# Altium schematic symbol library SM10B-NSHSS-TB.SchLib: 1 symbol
Pins are listed as number, name and electrical type; pins without a type are passive.

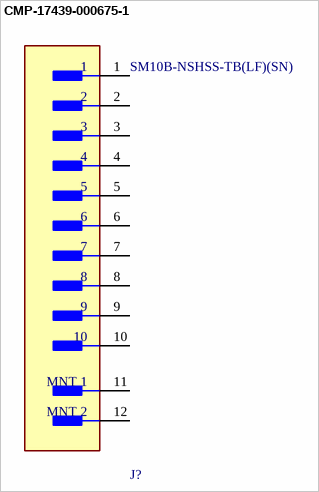
[diagram p0: symbol CMP-17439-000675-1]

## CMP-17439-000675-1
designator J?, comment SM10B-NSHSS-TB(LF)(SN)
CONN HEADER SMD R/A 10POS 1MM; Number of Positions: 10; Connector Type: Outer Shroud Contact; Pitch: 0.039inch; Packaging: Cut Tape; Fastening Type: Latch; Series: NSH; Termination: Solder; Contact Plating: Tin; Color: Natural; Mount: Surface Mount; Number of Rows: 1; Contact Type: Outer Shroud Contact; Lead Free: Lead Free
footprint FP-SM10B-NSHSS-TB_LF_SN-MFG
pins: 1, 2, 3, 4, 5, 6, 7, 8, 9, 10, 11 MNT 1, 12 MNT 2